# EAGLE library part IC-OPAMP-QUAD-* (library elpp-smt-v1.0)
Operational amplifier, quad.
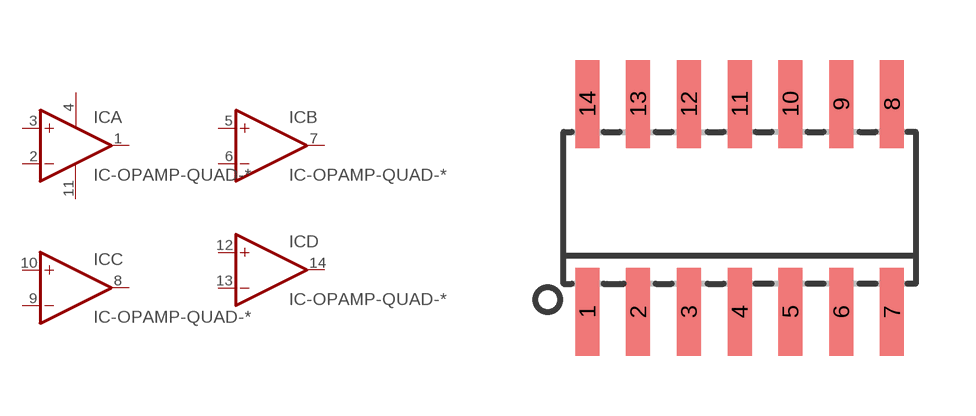
[diagram p1: symbol with the pads of ELPP-SOIC-14; footprint ELPP-SOIC-14]

Designator prefix IC; gates A=OPAMP B=OPAMP C=OPAMP D=OPAMP P=PWR+-

## IC-OPAMP-QUAD-LM324 (FARNELL: 8389233; RS: 5171876), IC-OPAMP-QUAD-LM6134AIM (FARNELL: 9490035; RS: 5343532), IC-OPAMP-QUAD-TS924A (FARNELL: 1750170; RS: 8091489)  [ELPP-SOIC-14]
1  A:OUT  out
2  A:-IN  in
3  A:+IN  in
4  P:V+  pas
5  B:+IN  in
6  B:-IN  in
7  B:OUT  out
8  C:OUT  out
9  C:-IN  in
10  C:+IN  in
11  P:V-  pas
12  D:+IN  in
13  D:-IN  in
14  D:OUT  out

## Footprint ELPP-SOIC-14 (pad centres in mm)
SOIC-14
smd 0.6 x 2.2: 1 -3.81,-2.6; 2 -2.54,-2.6; 3 -1.27,-2.6; 4 0,-2.6; 5 1.27,-2.6; 6 2.54,-2.6; 7 3.81,-2.6; 8 3.81,2.6; 9 2.54,2.6; 10 1.27,2.6; 11 0,2.6; 12 -1.27,2.6; 13 -2.54,2.6; 14 -3.81,2.6